# Altium footprint library NIXIE_N.PcbLib: 69 footprints (part 3 of 5)
Each footprint in its own frame and in the unit in brackets; x right, y up, seen from the top. Pads: shape width x height; smd on the part's side, far side on the other; paste and mask are expansions set on the pad; w line width, h text height; cw(c..) or ccw(c..) is an arc to the next point about the centre after c.
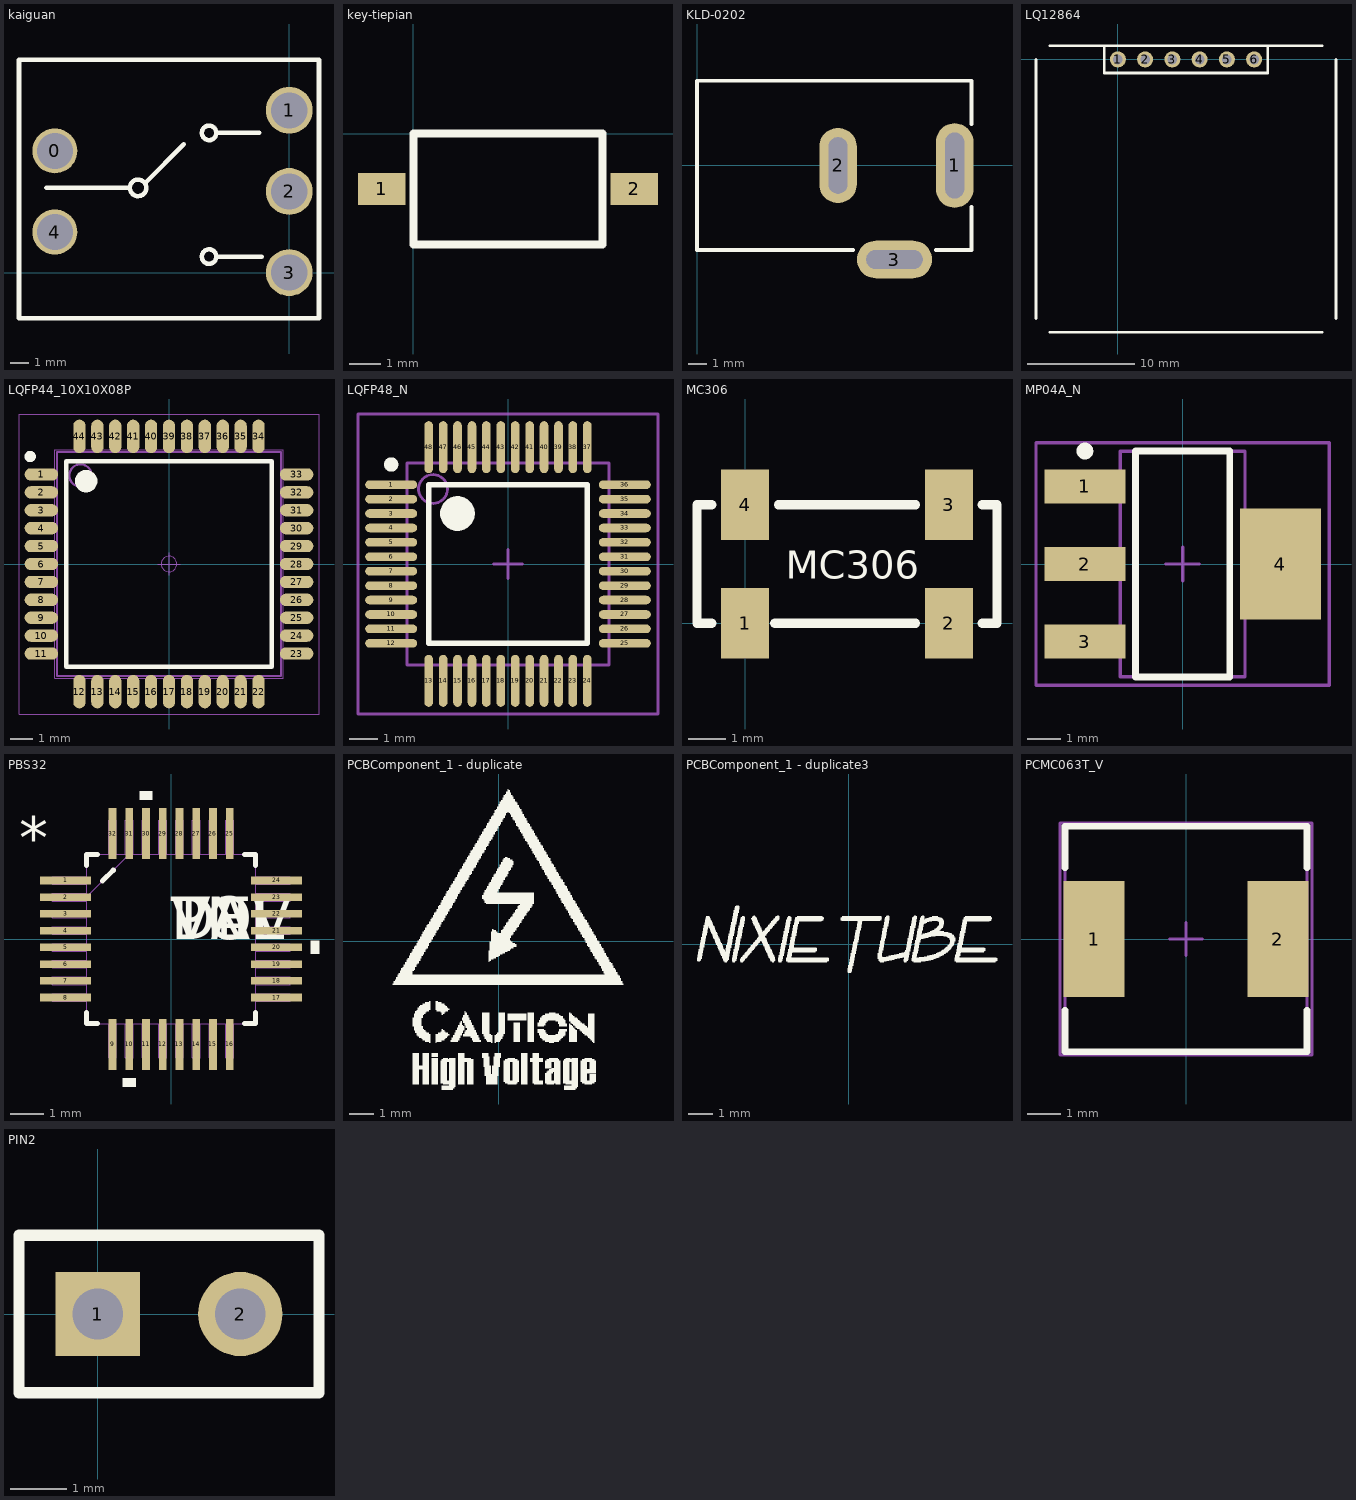
[diagram p2: the footprints below, top view; thin cyan lines are the x and y axes]

## kaiguan [mm]
pads (5):
  round 2.5 hole 2: 0(-13,6.75) 4(-13,2.25)
  round 2.6 hole 2: 1(0,9) 2(0,4.5) 3(0,0)
Top Overlay:
  circle w0.254: c-8.382,4.699 r0.458
  circle w0.254: c-4.445,7.747 r0.402
  circle w0.254: c-4.445,0.889 r0.402
  lines w0.254: -13.462,4.699 -8.89,4.699 ; -8.001,4.953 -5.842,7.112 ; -4.043,0.889 -1.524,0.889 ; -4.043,7.747 -1.651,7.747 ; -14.986,-2.54 -14.986,11.811 1.651,11.811 1.651,-2.54 -14.986,-2.54

## key-tiepian [mm]
height 1.1
pads (2):
  rect 1.5x1 smd: 1(-1,-1.75) 2(7,-1.75)
Top Overlay:
  lines w0.254: 0,-3.5 0,0 6,0 6,-3.5 0,-3.5

## KLD-0202 [mm]
height 2.1
pads (3):
  oval 2x4.5 hole 1 slot 3.5 at 90 deg: 1(13.692,-0.001)
  oval 2x4 hole 1 slot 3 at 90 deg: 2(7.492,-0.001)
  oval 4x2 hole 1 slot 3 at 0 deg: 3(10.492,-5.001)
Top Overlay:
  lines w0.2: 8.292,-4.501 -0.008,-4.501 -0.008,4.499 14.592,4.499 14.592,2.199 ; 12.692,-4.501 14.592,-4.501 14.592,-2.201
3D body: height 7.62, standoff 0, extent 0,-4.445 14.605,4.445

## LQ12864 [mm]
height 1.1
pads (6):
  round 1.5 hole 0.9: 1(0,0) 2(2.54,0) 3(5.08,0) 4(7.62,0) 5(10.16,0) 6(12.7,0)
Top Overlay:
  lines w0.254: -7.62,-24.13 -7.62,-20.32 -7.62,0 ; -6.35,-25.4 -5.08,-25.4 19.05,-25.4 ; -6.35,1.27 19.05,1.27 ; -1.27,1.27 -1.27,-1.27 13.97,-1.27 13.97,1.27 ; 20.32,-24.13 20.32,-22.86 20.32,0

## LQFP44_10X10X08P [mm]
pads (44):
  oval 1.5x0.55 smd: 1(-5.7,4) 2(-5.7,3.2) 3(-5.7,2.4) 4(-5.7,1.6) 5(-5.7,0.8) 6(-5.7,0) 7(-5.7,-0.8) 8(-5.7,-1.6) 9(-5.7,-2.4) 10(-5.7,-3.2) 11(-5.7,-4) 23(5.7,-4) 24(5.7,-3.2) 25(5.7,-2.4) 26(5.7,-1.6) 27(5.7,-0.8) 28(5.7,0) 29(5.7,0.8) 30(5.7,1.6) 31(5.7,2.4) 32(5.7,3.2) 33(5.7,4)
  oval 0.55x1.5 smd: 12(-4,-5.7) 13(-3.2,-5.7) 14(-2.4,-5.7) 15(-1.6,-5.7) 16(-0.8,-5.7) 17(0,-5.7) 18(0.8,-5.7) 19(1.6,-5.7) 20(2.4,-5.7) 21(3.2,-5.7) 22(4,-5.7) 34(4,5.7) 35(3.2,5.7) 36(2.4,5.7) 37(1.6,5.7) 38(0.8,5.7) 39(0,5.7) 40(-0.8,5.7) 41(-1.6,5.7) 42(-2.4,5.7) 43(-3.2,5.7) 44(-4,5.7)
Top Overlay:
  circle w0.5: c-3.7,3.7 r0.25
  circle w0.25: c-6.2,4.8 r0.125
  lines w0.2: -4.6,-4.6 -4.6,4.6 4.6,4.6 4.6,-4.6 -4.6,-4.6
Mechanical 15:
  circle w0.1: c-3.95,3.95 r0.5
  lines w0.1: -5,-5 -5,5 5,5 5,-5 -5,-5
Mechanical 16:
  circle w0.05: c0,0 r0.35
  lines w0.001: -5.1,-5.1 -5.1,5.1 5.1,5.1 5.1,-5.1 -5.1,-5.1
  lines w0.05: -0.5,0 0.5,0 ; 0,-0.5 0,0.5 ; -6.7,-6.7 -6.7,6.7 6.7,6.7 6.7,-6.7 -6.7,-6.7

## LQFP48_N [mm] "Thin QFP, 48-Leads, Body 7x7mm, Pitch 0.5mm, IPC Medium Density"
height 1.6
pads (48):
  oval 1.8x0.3 smd: 1(-4.05,2.75) 2(-4.05,2.25) 3(-4.05,1.75) 4(-4.05,1.25) 5(-4.05,0.75) 6(-4.05,0.25) 7(-4.05,-0.25) 8(-4.05,-0.75) 9(-4.05,-1.25) 10(-4.05,-1.75) 11(-4.05,-2.25) 12(-4.05,-2.75) 25(4.05,-2.75) 26(4.05,-2.25) 27(4.05,-1.75) 28(4.05,-1.25) 29(4.05,-0.75) 30(4.05,-0.25) 31(4.05,0.25) 32(4.05,0.75) 33(4.05,1.25) 34(4.05,1.75) 35(4.05,2.25) 36(4.05,2.75)
  oval 0.3x1.8 smd: 13(-2.75,-4.05) 14(-2.25,-4.05) 15(-1.75,-4.05) 16(-1.25,-4.05) 17(-0.75,-4.05) 18(-0.25,-4.05) 19(0.25,-4.05) 20(0.75,-4.05) 21(1.25,-4.05) 22(1.75,-4.05) 23(2.25,-4.05) 24(2.75,-4.05) 37(2.75,4.05) 38(2.25,4.05) 39(1.75,4.05) 40(1.25,4.05) 41(0.75,4.05) 42(0.25,4.05) 43(-0.25,4.05) 44(-0.75,4.05) 45(-1.25,4.05) 46(-1.75,4.05) 47(-2.25,4.05) 48(-2.75,4.05)
Top Overlay:
  circle w0.6: c-1.75,1.75 r0.3
  circle w0.25: c-4.05,3.45 r0.125
  lines w0.2: -2.75,-2.75 2.75,-2.75 2.75,2.75 -2.75,2.75 -2.75,-2.75
Mechanical 13:
  circle w0.1: c-2.6,2.6 r0.5
  lines w0.1: -3.5,-3.5 3.5,-3.5 3.5,3.5 -3.5,3.5 -3.5,-3.5
Mechanical 15:
  lines w0.1: -0.5,0 0.5,0 ; 0,-0.5 0,0.5 ; -5.2,-5.2 5.2,-5.2 5.2,5.2 -5.2,5.2 -5.2,-5.2
3D body: height 1.6, standoff 0, extent -3.5,-3.5 3.5,3.5

## MC306 [mm]
pads (4):
  rect 1.3x1.9 smd: 1(0,0) 2(5.5,0) 3(5.5,3.2) 4(0,3.2)
Top Overlay:
  lines w0.254: -0.9,0 -1.3,0 -1.3,3.2 -0.9,3.2 ; 0.8,0 4.6,0 ; 0.9,3.2 4.6,3.2 ; 6.4,0 6.8,0 6.8,3.2 6.4,3.2
  text "MC306" at 1.1,1.2 h0.76

## MP04A_N [mm] "SOT223, 4-Leads, Body 6.5x3.5mm, Pitch 2.3mm, Lead Span 7mm, IPC Medium Density"
height 1.8
pads (4):
  rect 2.4x1 smd: 1(-2.9,2.3) 2(-2.9,0) 3(-2.9,-2.3)
  rect 2.4x3.3 smd: 4(2.9,0)
Top Overlay:
  circle w0.25: c-2.9,3.35 r0.125
  lines w0.2: -1.4,-3.35 -1.4,3.35 1.4,3.35 1.4,-3.35 -1.4,-3.35
Mechanical 13:
  lines w0.1: -1.85,-3.35 -1.85,3.35 1.85,3.35 1.85,-3.35 -1.85,-3.35
Mechanical 15:
  lines w0.1: -0.5,0 0.5,0 ; 0,-0.5 0,0.5 ; -4.35,-3.6 -4.35,3.6 4.35,3.6 4.35,-3.6 -4.35,-3.6
3D body: height 1.8, standoff 0, extent -1.85,-3.35 1.85,3.35

## PBS32 [mil]
pads (32):
  rect 60x9 smd: 1(-124,68.9) 2(-124,49.21) 3(-124,29.53) 4(-124,9.84) 5(-124,-9.84) 6(-124,-29.53) 7(-124,-49.21) 8(-124,-68.9) 17(124,-68.9) 18(124,-49.21) 19(124,-29.53) 20(124,-9.84) 21(124,9.84) 22(124,29.53) 23(124,49.21) 24(124,68.9)
  rect 9x60 smd: 9(-68.9,-124) 10(-49.21,-124) 11(-29.53,-124) 12(-9.84,-124) 13(9.84,-124) 14(29.53,-124) 15(49.21,-124) 16(68.9,-124) 25(68.9,124) 26(49.21,124) 27(29.53,124) 28(9.84,124) 29(-9.84,124) 30(-29.53,124) 31(-49.21,124) 32(-68.9,124)
Top Overlay:
  region: -41.71,-164 -56.71,-164 -56.71,-174 -41.71,-174
  region: 164,-2.34 174,-2.34 174,-17.34 164,-17.34
  region: -22.03,164 -37.03,164 -37.03,174 -22.03,174
  lines w6: -99.5,-86.5 -99.5,-99.5 -86.5,-99.5 ; -99.5,86.5 -99.5,99.5 -86.5,99.5 ; -80.9,68.1 -68.1,80.9 ; 86.5,-99.5 99.5,-99.5 99.5,-86.5 ; 86.5,99.5 99.5,99.5 99.5,86.5
  text "*" at -179,93.74 h50
  text "PN" at 0,0 h50
  text "DEV" at 0,0 h50
  text "VAL" at 0,0 h50
  text "TOL" at 0,0 h50
Mechanical 1:
  lines w0: -99.5,49.5 -49.5,99.5 ; -140,-73.4 -140,-64.4 -99.5,-64.4 -99.5,-73.4 -140,-73.4 ; -140,-53.71 -140,-44.71 -99.5,-44.71 -99.5,-53.71 -140,-53.71 ; -140,-34.03 -140,-25.03 -99.5,-25.03 -99.5,-34.03 -140,-34.03 ; -140,-14.34 -140,-5.34 -99.5,-5.34 -99.5,-14.34 -140,-14.34 ; -140,5.34 -140,14.34 -99.5,14.34 -99.5,5.34 -140,5.34 ; -140,25.03 -140,34.03 -99.5,34.03 -99.5,25.03 -140,25.03 ; -140,44.71 -140,53.71 -99.5,53.71 -99.5,44.71 -140,44.71 ; -140,64.4 -140,73.4 -99.5,73.4 -99.5,64.4 -140,64.4 ; -99.5,-99.5 99.5,-99.5 99.5,99.5 -99.5,99.5 -99.5,-99.5 ; -73.4,-140 -73.4,-99.5 -64.4,-99.5 -64.4,-140 -73.4,-140 ; -73.4,99.5 -64.4,99.5 -64.4,140 -73.4,140 -73.4,99.5 ; -53.71,-140 -53.71,-99.5 -44.71,-99.5 -44.71,-140 -53.71,-140 ; -53.71,99.5 -44.71,99.5 -44.71,140 -53.71,140 -53.71,99.5 ; -34.03,-140 -34.03,-99.5 -25.03,-99.5 -25.03,-140 -34.03,-140 ; -34.03,99.5 -25.03,99.5 -25.03,140 -34.03,140 -34.03,99.5 ; -14.34,-140 -14.34,-99.5 -5.34,-99.5 -5.34,-140 -14.34,-140 ; -14.34,99.5 -5.34,99.5 -5.34,140 -14.34,140 -14.34,99.5 ; 5.34,-140 5.34,-99.5 14.34,-99.5 14.34,-140 5.34,-140 ; 5.34,99.5 14.34,99.5 14.34,140 5.34,140 5.34,99.5 ; 25.03,-140 25.03,-99.5 34.03,-99.5 34.03,-140 25.03,-140 ; 25.03,99.5 34.03,99.5 34.03,140 25.03,140 25.03,99.5 ; 44.71,-140 44.71,-99.5 53.71,-99.5 53.71,-140 44.71,-140 ; 44.71,99.5 53.71,99.5 53.71,140 44.71,140 44.71,99.5 ; 64.4,-140 64.4,-99.5 73.4,-99.5 73.4,-140 64.4,-140 ; 64.4,99.5 73.4,99.5 73.4,140 64.4,140 64.4,99.5 ; 99.5,-73.4 99.5,-64.4 140,-64.4 140,-73.4 99.5,-73.4 ; 99.5,-53.71 99.5,-44.71 140,-44.71 140,-53.71 99.5,-53.71 ; 99.5,-34.03 99.5,-25.03 140,-25.03 140,-34.03 99.5,-34.03 ; 99.5,-14.34 99.5,-5.34 140,-5.34 140,-14.34 99.5,-14.34 ; 99.5,5.34 99.5,14.34 140,14.34 140,5.34 99.5,5.34 ; 99.5,25.03 99.5,34.03 140,34.03 140,25.03 99.5,25.03 ; 99.5,44.71 99.5,53.71 140,53.71 140,44.71 99.5,44.71 ; 99.5,64.4 99.5,73.4 140,73.4 140,64.4 99.5,64.4
  text "*" at -179,93.74 h50
  text "RefDes2" at 0,0 h50

## PCBComponent_1 [mm]

## PCBComponent_1 - duplicate [mm]
Top Overlay:
  drawing of 2054 lines, arcs and shapes, not listed

## PCBComponent_1 - duplicate1 [mm]

## PCBComponent_1 - duplicate2 [mm]

## PCBComponent_1 - duplicate3 [mm]
Top Overlay:
  drawing of 1002 lines, arcs and shapes, not listed

## PCMC063T_V [mm] "SM Inductor; 2 Leads; Body 7.3x6.6mm (LxW), SSM Recommended"
height 3
pads (2):
  rect 1.85x3.5 smd: 1(-2.775,0) 2(2.775,0)
Top Overlay:
  lines w0.2: -3.65,-2.15 -3.65,-3.4 3.65,-3.4 3.65,-2.15 ; -3.65,2.15 -3.65,3.4 3.65,3.4 3.65,2.15
Mechanical 13:
  lines w0.1: -3.65,-3.4 -3.65,3.4 3.65,3.4 3.65,-3.4 -3.65,-3.4
Mechanical 15:
  lines w0.1: -0.5,0 0.5,0 ; 0,-0.5 0,0.5 ; -3.8,-3.5 3.8,-3.5 3.8,3.5 -3.8,3.5 -3.8,-3.5
3D body: height 3, standoff 0, extent -3.65,-3.4 3.65,3.4
3D body: height 3, standoff 0, extent 0,0 0,0

## PIN2 [mm] "Photosensitive Diode; 2 Leads"
pads (2):
  rect 1.5x1.5 hole 0.9: 1(0,0)
  round 1.5 hole 0.9: 2(2.54,0)
Top Overlay:
  lines w0.2: -1.4,-1.4 -1.4,1.4 3.94,1.4 3.94,-1.4 -1.4,-1.4